# Altium footprint library MMBT2222A.PcbLib: 1 footprints
Each footprint in its own frame and in the unit in brackets; x right, y up, seen from the top. Pads: shape width x height; smd on the part's side, far side on the other; paste and mask are expansions set on the pad; w line width, h text height; cw(c..) or ccw(c..) is an arc to the next point about the centre after c.
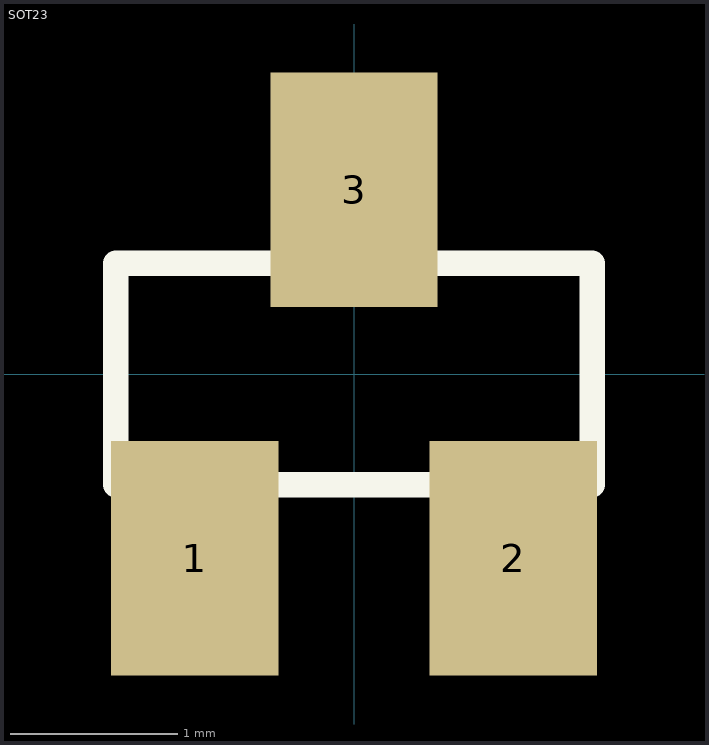
[diagram p0: the footprint, top view; thin cyan lines are the x and y axes]

## SOT23 [mm]
pads (3):
  rect 1x1.4 smd paste-25.4 mask-25.4: 1(-0.95,-1.1) 2(0.95,-1.1) 3(0,1.1)
Top Overlay:
  lines w0.152: -1.422,-0.66 1.422,-0.66 1.422,0.66 -1.422,0.66 -1.422,-0.66
Top Paste:
  region: -0.5,0.4 0.5,0.4 0.5,1.8 -0.5,1.8
  region: 0.45,-1.8 1.45,-1.8 1.45,-0.4 0.45,-0.4
  region: -1.45,-1.8 -0.45,-1.8 -0.45,-0.4 -1.45,-0.4
Top Solder:
  region: -0.6,0.3 0.6,0.3 0.6,1.9 -0.6,1.9
  region: 0.35,-1.9 1.55,-1.9 1.55,-0.3 0.35,-0.3
  region: -1.55,-1.9 -0.35,-1.9 -0.35,-0.3 -1.55,-0.3
3D body: height 0.89, standoff 0, extent -1.524,-0.762 1.524,0.762